# EAGLE library part PIC18F67J90-X_PT (library johnmamish-microchip)
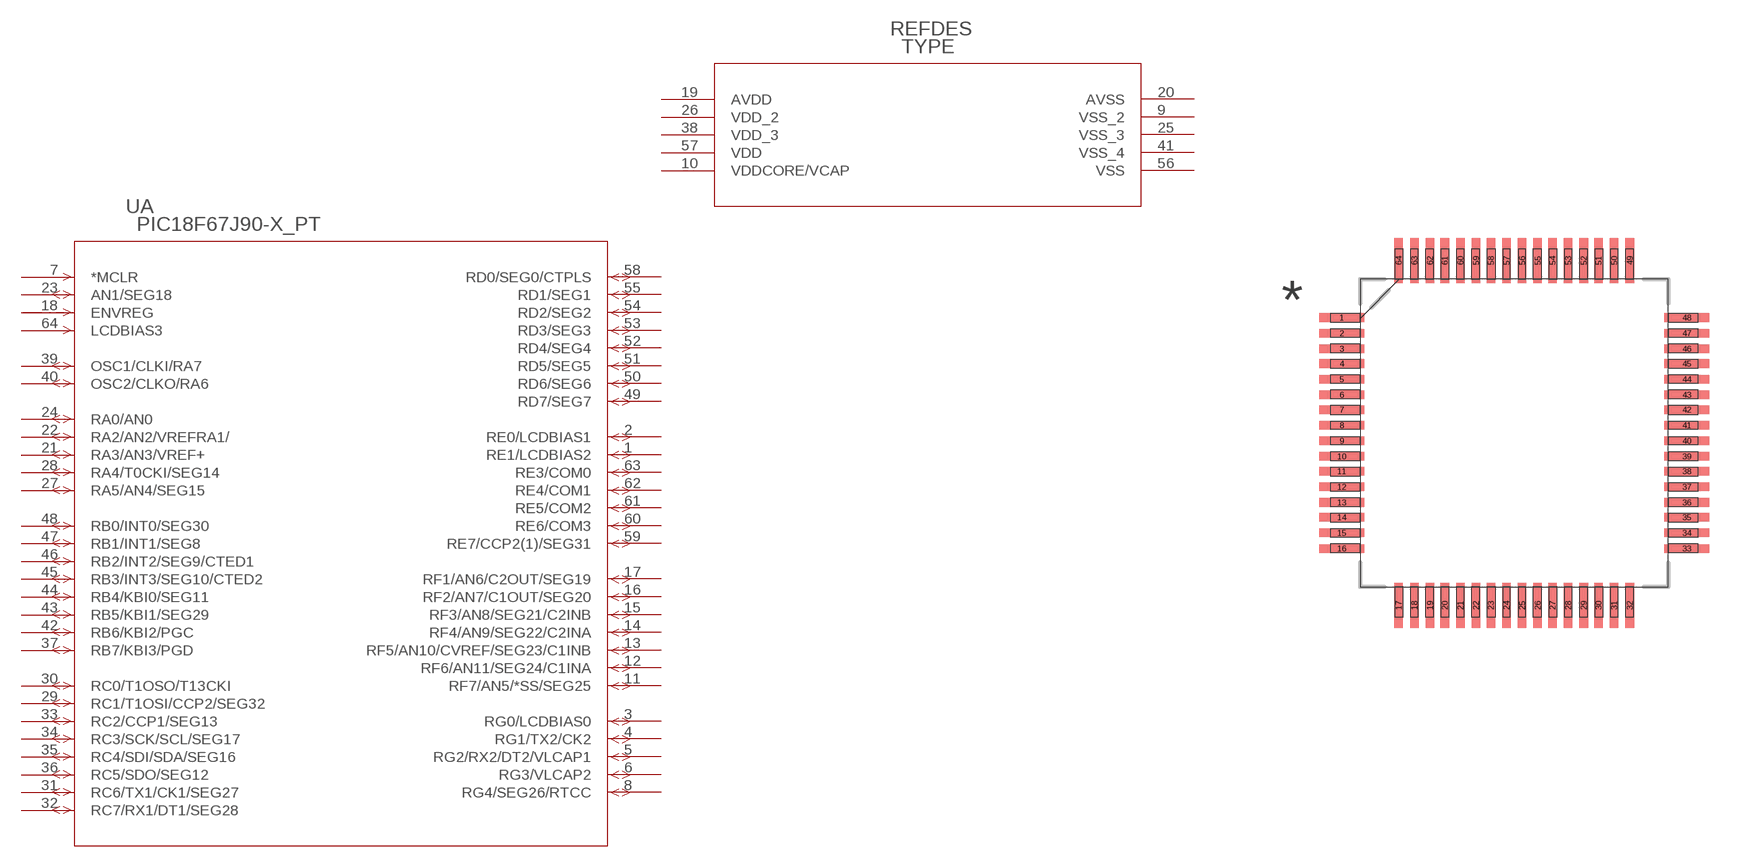
[diagram p6: symbol with the pads of QFP64-10X10MC; footprint QFP64-10X10MC]

Designator prefix -; gates A=PIC18F67J90-X_PT B=PIC18F67J90-X_00

## PIC18F67J90-X_PT  [QFP64-10X10MC]
1  A:RE1/LCDBIAS2  pas
2  A:RE0/LCDBIAS1  pas
3  A:RG0/LCDBIAS0  pas
4  A:RG1/TX2/CK2  pas
5  A:RG2/RX2/DT2/VLCAP1  pas
6  A:RG3/VLCAP2  pas
7  A:*MCLR  pas
8  A:RG4/SEG26/RTCC  pas
9  B:VSS_2  pas
10  B:VDDCORE/VCAP  pas
11  A:RF7/AN5/*SS/SEG25  pas
12  A:RF6/AN11/SEG24/C1INA  pas
13  A:RF5/AN10/CVREF/SEG23/C1INB  pas
14  A:RF4/AN9/SEG22/C2INA  pas
15  A:RF3/AN8/SEG21/C2INB  pas
16  A:RF2/AN7/C1OUT/SEG20  pas
17  A:RF1/AN6/C2OUT/SEG19  pas
18  A:ENVREG  pas
19  B:AVDD  pas
20  B:AVSS  pas
21  A:RA3/AN3/VREF+  pas
22  A:RA2/AN2/VREFRA1/  pas
23  A:AN1/SEG18  pas
24  A:RA0/AN0  pas
25  B:VSS_3  pas
26  B:VDD_2  pas
27  A:RA5/AN4/SEG15  pas
28  A:RA4/T0CKI/SEG14  pas
29  A:RC1/T1OSI/CCP2/SEG32  pas
30  A:RC0/T1OSO/T13CKI  pas
31  A:RC6/TX1/CK1/SEG27  pas
32  A:RC7/RX1/DT1/SEG28  pas
33  A:RC2/CCP1/SEG13  pas
34  A:RC3/SCK/SCL/SEG17  pas
35  A:RC4/SDI/SDA/SEG16  pas
36  A:RC5/SDO/SEG12  pas
37  A:RB7/KBI3/PGD  pas
38  B:VDD_3  pas
39  A:OSC1/CLKI/RA7  pas
40  A:OSC2/CLKO/RA6  pas
41  B:VSS_4  pas
42  A:RB6/KBI2/PGC  pas
43  A:RB5/KBI1/SEG29  pas
44  A:RB4/KBI0/SEG11  pas
45  A:RB3/INT3/SEG10/CTED2  pas
46  A:RB2/INT2/SEG9/CTED1  pas
47  A:RB1/INT1/SEG8  pas
48  A:RB0/INT0/SEG30  pas
49  A:RD7/SEG7  pas
50  A:RD6/SEG6  pas
51  A:RD5/SEG5  pas
52  A:RD4/SEG4  pas
53  A:RD3/SEG3  pas
54  A:RD2/SEG2  pas
55  A:RD1/SEG1  pas
56  B:VSS  pas
57  B:VDD  pas
58  A:RD0/SEG0/CTPLS  pas
59  A:RE7/CCP2(1)/SEG31  pas
60  A:RE6/COM3  pas
61  A:RE5/COM2  pas
62  A:RE4/COM1  pas
63  A:RE3/COM0  pas
64  A:LCDBIAS3  pas

## Footprint QFP64-10X10MC (pad centres in mm)
smd 1.473 x 0.279: 1 -5.613,3.759; 2 -5.613,3.251; 3 -5.613,2.743; 4 -5.613,2.261; 5 -5.613,1.753; 6 -5.613,1.245; 7 -5.613,0.762; 8 -5.613,0.254; 9 -5.613,-0.254; 10 -5.613,-0.762; 11 -5.613,-1.245; 12 -5.613,-1.753; 13 -5.613,-2.261; 14 -5.613,-2.743; 15 -5.613,-3.251; 16 -5.613,-3.759; 33 5.613,-3.759; 34 5.613,-3.251; 35 5.613,-2.743; 36 5.613,-2.261; 37 5.613,-1.753; 38 5.613,-1.245; 39 5.613,-0.762; 40 5.613,-0.254; 41 5.613,0.254; 42 5.613,0.762; 43 5.613,1.245; 44 5.613,1.753; 45 5.613,2.261; 46 5.613,2.743; 47 5.613,3.251; 48 5.613,3.759
smd 0.279 x 1.473: 17 -3.759,-5.613; 18 -3.251,-5.613; 19 -2.743,-5.613; 20 -2.261,-5.613; 21 -1.753,-5.613; 22 -1.245,-5.613; 23 -0.762,-5.613; 24 -0.254,-5.613; 25 0.254,-5.613; 26 0.762,-5.613; 27 1.245,-5.613; 28 1.753,-5.613; 29 2.261,-5.613; 30 2.743,-5.613; 31 3.251,-5.613; 32 3.759,-5.613; 49 3.759,5.613; 50 3.251,5.613; 51 2.743,5.613; 52 2.261,5.613; 53 1.753,5.613; 54 1.245,5.613; 55 0.762,5.613; 56 0.254,5.613; 57 -0.254,5.613; 58 -0.762,5.613; 59 -1.245,5.613; 60 -1.753,5.613; 61 -2.261,5.613; 62 -2.743,5.613; 63 -3.251,5.613; 64 -3.759,5.613